# Altium schematic symbol library MODCMP-P088-M14X14_New.SchLib: 1 symbol
Pins are listed as number, name and electrical type; pins without a type are passive.

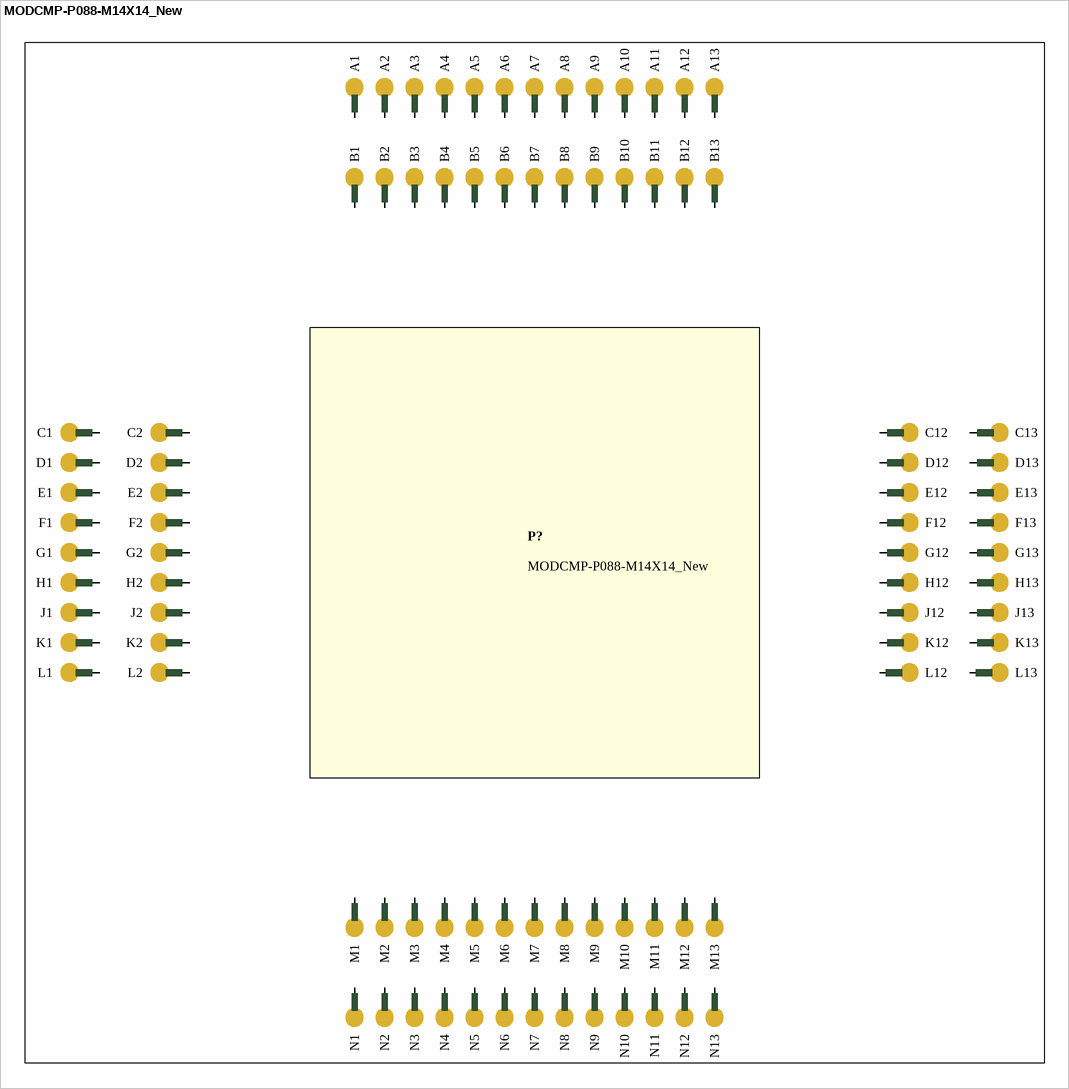
[diagram p0: symbol MODCMP-P088-M14X14_New]

## MODCMP-P088-M14X14_New
designator P?  (no BOM)
Module Component - 1mm Pitch, 88-Pin, 14mmX14mm
pins: A1, A2, A3, A4, A5, A6, A7, A8, A9, A10, A11, A12, A13, B1, B2, B3, B4, B5, B6, B7, B8, B9, B10, B11, B12, B13, C1, C2, C12, C13, D1, D2, D12, D13, E1, E2, E12, E13, F1, F2, F12, F13, G1, G2, G12, G13, H1, H2, H12, H13, J1, J2, J12, J13, K1, K2, K12, K13, L1, L2, L12, L13, M1, M2, M3, M4, M5, M6, M7, M8, M9, M10, M11, M12, M13, N1, N2, N3, N4, N5, N6, N7, N8, N9, N10, N11, N12, N13